# Altium integrated library TI Power Management Battery Management.IntLib: 949 symbols (part 5 of 62)
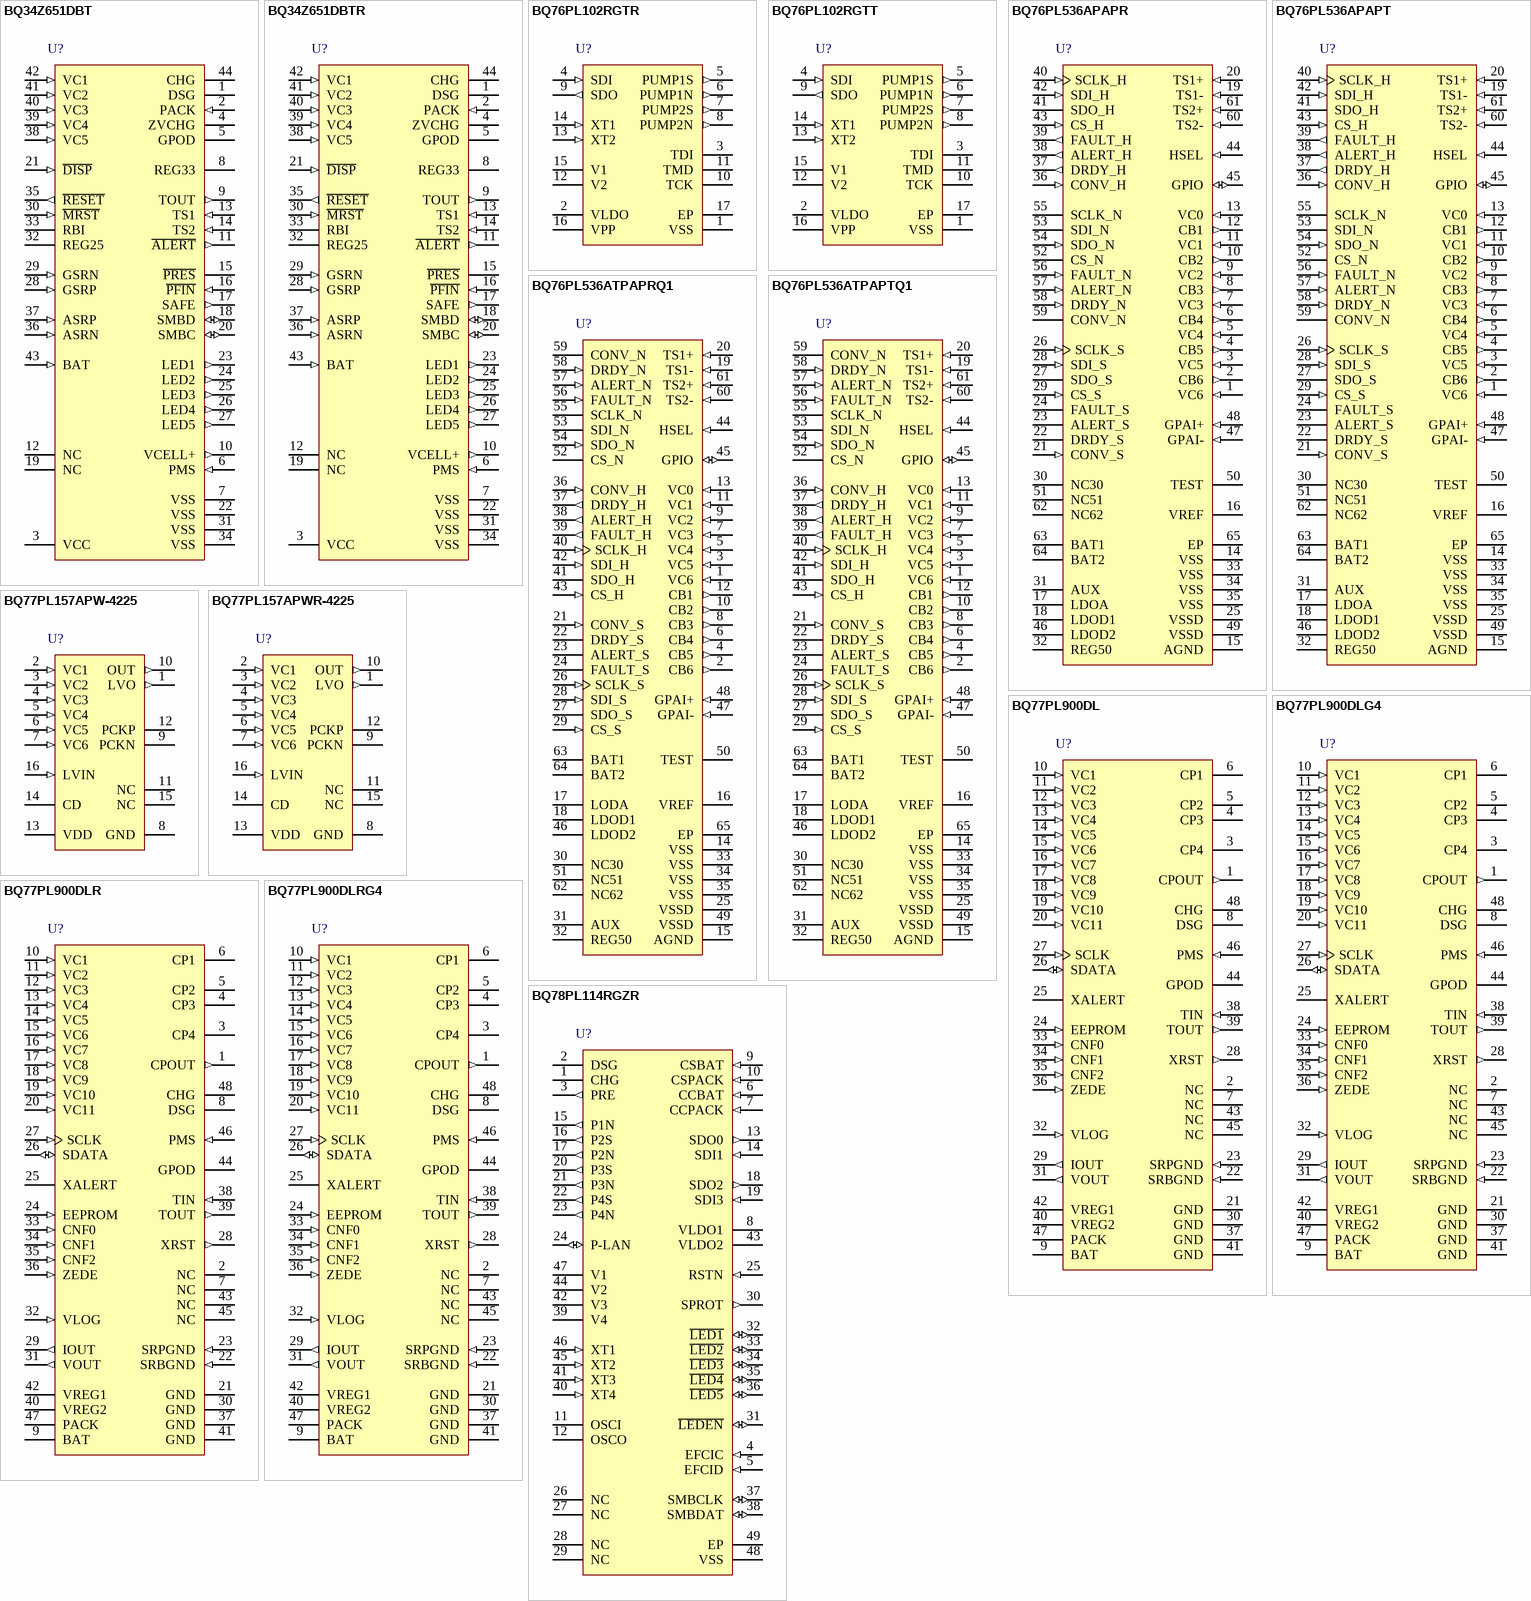
[diagram p38: symbols BQ34Z651DBT to BQ78PL114RGZR]

## BQ77PL900DLG4
designator U?
5 to 10 Cell Li-ion Battery Protection & AFE, -40 to 100 degC, 48-pin SSOP (DL), Green (RoHS & no Sb/Br); PartNumber: BQ77PL900DLG4; Manufacturer: Texas Instruments; Lead Acid: N; Li-Ion: Y; SubFamily: Lithium Ion Protection; DatasheetVersion: SLUS844B; PackageVersion: revE, Dec-2001; PackageReference: DL48; PackageDescription: 48-Pin Plastic Small Outline Package 0.635 mm Pitch; Supplier 1: Digi-Key; Supplier Part Number 1: BQ77PL900DLG4-ND; Supplier 2: Mouser; Supplier Part Number 2: 595-BQ77PL900DLG4; Eco-Plan: Green (RoHS & no Sb/Br); Li-Polymer: Y; NiCd: N; NiMH: N; Over Voltage Protection: Y; Mounting Technology: Surface Mount; Code_JEDEC: MO-118; ComponentLink1Description: Datasheet; ComponentLink1URL: http://www.ti.com/general/docs/lit/getliterature.tsp?genericPartNumber=BQ77PL900&fileType=pdf
footprint DL48_N (SOP, 48-Leads, Body 15.9x7.5mm, Pitch 0.635mm, IPC Medium Density)
footprint DL48_L (SOP, 48-Leads, Body 15.9x7.5mm, Pitch 0.635mm, IPC High Density)
footprint DL48_M (SOP, 48-Leads, Body 15.9x7.5mm, Pitch 0.635mm, IPC Low Density)
pins: 1 CPOUT (out) "Charge pump output and internal power source.", 2 NC "No connect (not electrically connected)", 3 CP4 "Charge pump capacitor 1 connection terminal", 4 CP3 "Charge pump capacitor 1 connection terminal", 5 CP2 "Charge pump capacitor 2 connection terminal", 6 CP1 "Charge pump capacitor 2 connection terminal", 7 NC "No connect (not electrically connected)", 8 DSG "Discharge FET gate drive", 9 BAT (power) "Power supply voltage", 10 VC1 (in) "Sense voltage input terminal for most positive cell, balance current input for most positive cell, and battery stack measurement input", 11 VC2 (in) "Sense voltage input terminal for second-most positive cell, balance current input for second-most positive cell, and return balance current for most positive cell", 12 VC3 (in) "Sense voltage input terminal for second-most positive cell, balance current input for third-most positive cell, and return balance current for second-most positive cell", 13 VC4 (in) "Sense voltage input terminal for fourth-most positive cell, balance current input for fourth-most positive cell, and return balance current for third-most positive cell", 14 VC5 (in) "Sense voltage input terminal for fifth-most positive cell, balance current input for fifth-most positive cell, and return balance current for fourth-most positive cell", 15 VC6 (in) "Sense voltage input terminal for sixth-most positive cell, balance current input for sixth-most positive cell, and return balance current for fifth-most positive cell", 16 VC7 (in) "Sense voltage input terminal for seventh-most positive cell, balance current input for seventh-most positive cell, and return balance current for sixth-most positive cell", 17 VC8 (in) "Sense voltage input terminal for eighth-most positive cell, balance current input for eighth-most positive cell, and return balance current for seventh-most positive cell", 18 VC9 (in) "Sense voltage input terminal for ninth-most positive cell, balance current input for ninth-most positive cell, and return balance current for eighth-most positive cell", 19 VC10 (in) "Sense voltage input terminal for tenth-most positive cell, balance current input for tenth-most positive cell, and return balance current for ninth-most positive cell", 20 VC11 (in) "Sense voltage input terminal for most negative cell, return balance current for least positive cell", 21 GND (power) "Power-supply ground", 22 SRBGND (in) "Current sense terminal (Connect Battery to cell’s GND)", 23 SRPGND (in) "Current-sense positive terminal when discharging relative to SRNGND, current-sense negative terminal when charging relative to SRGND. (Connect to pack GND)", 24 EEPROM (in) "Active-high EEPROM write-enable pin. During normal operation, should be connected to GND", 25 XALERT (oc) "Open-drain output used to indicate status register change. (Includes an internal 100-k ohm pullup to VLOG.)", 26 SDATA (io) "Open-drain bidirectional serial interface data with an internal 10-k ohm pullup to VLOG", 27 SCLK (in) "Open-drain bidirectional serial interface clock with an internal 10-k ohm pullup to VLOG", 28 XRST (out) "Power-on-reset output. Active-low open-drain output with an internal 3-k ohm pullup to VLOG", 29 IOUT (out) "Amplifier output for charge/discharge current measurement", 30 GND (power) "Power-supply ground", 31 VOUT (out) "Amplifier output for cell voltage measurement", 32 VLOG (in) "Data I/O voltage set by connecting either VREG1 or VREG2", 33 CNF0 (in) "Used cell for number determination in combination with CNF1 and CNF2", 34 CNF1 (in) "Used cell for number determination in combination with CNF0 and CNF2", 35 CNF2 (in) "Used cell for number determination in combination with CNF0 and CNF1", 36 ZEDE (in) "Protection delay test pin. Minimizes protection delay times when connected to VLOG. Programmed delay times used when pulled to GND, normal operation.", 37 GND (power) "Power-supply ground", 38 TIN (in) "Temperature sensing input", 39 TOUT (out) "Thermistor bias current source", 40 VREG2 (power) "Integrated 3.3-V regulator output", 41 GND (power) "Should be connected to GND", 42 VREG1 (power) "Integrated 5-V regulator output", 43 NC "No connect (not electrically connected)", 44 GPOD (hiz) "General-purpose N-CH FET open-drain output", 45 NC "No connect (not electrically connected)", 46 PMS (in) "Determines CHG output state for zero-volt charge", 47 PACK (power) "PACK positive terminal and alternative power source", 48 CHG "Charge FET gate drive"

## BQ77PL900DLR
designator U?
5 to 10 Cell Li-ion Battery Protection & AFE, -40 to 100 degC, 48-pin SSOP (DL), Green (RoHS & no Sb/Br); PartNumber: BQ77PL900DLR; Manufacturer: Texas Instruments; Lead Acid: N; Li-Ion: Y; SubFamily: Lithium Ion Protection; DatasheetVersion: SLUS844B; PackageVersion: revE, Dec-2001; PackageReference: DL48; PackageDescription: 48-Pin Plastic Small Outline Package 0.635 mm Pitch; Supplier 1: Digi-Key; Supplier Part Number 1: 296-23520-2-ND; Supplier 2: Digi-Key; Supplier Part Number 2: 296-23520-1-ND; Supplier 3: Digi-Key; Supplier Part Number 3: 296-23520-6-ND; Supplier 4: Newark; Supplier Part Number 4: 15N0083; Supplier 5: Mouser; Supplier Part Number 5: 595-BQ77PL900DLR; Eco-Plan: Green (RoHS & no Sb/Br); Li-Polymer: Y; NiCd: N; NiMH: N; Over Voltage Protection: Y; Mounting Technology: Surface Mount; Code_JEDEC: MO-118; ComponentLink1Description: Datasheet; ComponentLink1URL: http://www.ti.com/general/docs/lit/getliterature.tsp?genericPartNumber=BQ77PL900&fileType=pdf
footprint DL48_N (SOP, 48-Leads, Body 15.9x7.5mm, Pitch 0.635mm, IPC Medium Density)
footprint DL48_L (SOP, 48-Leads, Body 15.9x7.5mm, Pitch 0.635mm, IPC High Density)
footprint DL48_M (SOP, 48-Leads, Body 15.9x7.5mm, Pitch 0.635mm, IPC Low Density)
pins: 1 CPOUT (out) "Charge pump output and internal power source.", 2 NC "No connect (not electrically connected)", 3 CP4 "Charge pump capacitor 1 connection terminal", 4 CP3 "Charge pump capacitor 1 connection terminal", 5 CP2 "Charge pump capacitor 2 connection terminal", 6 CP1 "Charge pump capacitor 2 connection terminal", 7 NC "No connect (not electrically connected)", 8 DSG "Discharge FET gate drive", 9 BAT (power) "Power supply voltage", 10 VC1 (in) "Sense voltage input terminal for most positive cell, balance current input for most positive cell, and battery stack measurement input", 11 VC2 (in) "Sense voltage input terminal for second-most positive cell, balance current input for second-most positive cell, and return balance current for most positive cell", 12 VC3 (in) "Sense voltage input terminal for second-most positive cell, balance current input for third-most positive cell, and return balance current for second-most positive cell", 13 VC4 (in) "Sense voltage input terminal for fourth-most positive cell, balance current input for fourth-most positive cell, and return balance current for third-most positive cell", 14 VC5 (in) "Sense voltage input terminal for fifth-most positive cell, balance current input for fifth-most positive cell, and return balance current for fourth-most positive cell", 15 VC6 (in) "Sense voltage input terminal for sixth-most positive cell, balance current input for sixth-most positive cell, and return balance current for fifth-most positive cell", 16 VC7 (in) "Sense voltage input terminal for seventh-most positive cell, balance current input for seventh-most positive cell, and return balance current for sixth-most positive cell", 17 VC8 (in) "Sense voltage input terminal for eighth-most positive cell, balance current input for eighth-most positive cell, and return balance current for seventh-most positive cell", 18 VC9 (in) "Sense voltage input terminal for ninth-most positive cell, balance current input for ninth-most positive cell, and return balance current for eighth-most positive cell", 19 VC10 (in) "Sense voltage input terminal for tenth-most positive cell, balance current input for tenth-most positive cell, and return balance current for ninth-most positive cell", 20 VC11 (in) "Sense voltage input terminal for most negative cell, return balance current for least positive cell", 21 GND (power) "Power-supply ground", 22 SRBGND (in) "Current sense terminal (Connect Battery to cell’s GND)", 23 SRPGND (in) "Current-sense positive terminal when discharging relative to SRNGND, current-sense negative terminal when charging relative to SRGND. (Connect to pack GND)", 24 EEPROM (in) "Active-high EEPROM write-enable pin. During normal operation, should be connected to GND", 25 XALERT (oc) "Open-drain output used to indicate status register change. (Includes an internal 100-k ohm pullup to VLOG.)", 26 SDATA (io) "Open-drain bidirectional serial interface data with an internal 10-k ohm pullup to VLOG", 27 SCLK (in) "Open-drain bidirectional serial interface clock with an internal 10-k ohm pullup to VLOG", 28 XRST (out) "Power-on-reset output. Active-low open-drain output with an internal 3-k ohm pullup to VLOG", 29 IOUT (out) "Amplifier output for charge/discharge current measurement", 30 GND (power) "Power-supply ground", 31 VOUT (out) "Amplifier output for cell voltage measurement", 32 VLOG (in) "Data I/O voltage set by connecting either VREG1 or VREG2", 33 CNF0 (in) "Used cell for number determination in combination with CNF1 and CNF2", 34 CNF1 (in) "Used cell for number determination in combination with CNF0 and CNF2", 35 CNF2 (in) "Used cell for number determination in combination with CNF0 and CNF1", 36 ZEDE (in) "Protection delay test pin. Minimizes protection delay times when connected to VLOG. Programmed delay times used when pulled to GND, normal operation.", 37 GND (power) "Power-supply ground", 38 TIN (in) "Temperature sensing input", 39 TOUT (out) "Thermistor bias current source", 40 VREG2 (power) "Integrated 3.3-V regulator output", 41 GND (power) "Should be connected to GND", 42 VREG1 (power) "Integrated 5-V regulator output", 43 NC "No connect (not electrically connected)", 44 GPOD (hiz) "General-purpose N-CH FET open-drain output", 45 NC "No connect (not electrically connected)", 46 PMS (in) "Determines CHG output state for zero-volt charge", 47 PACK (power) "PACK positive terminal and alternative power source", 48 CHG "Charge FET gate drive"

## BQ77PL900DLRG4
designator U?
5 to 10 Cell Li-ion Battery Protection & AFE, -40 to 100 degC, 48-pin SSOP (DL), Green (RoHS & no Sb/Br); PartNumber: BQ77PL900DLRG4; Manufacturer: Texas Instruments; Lead Acid: N; Li-Ion: Y; SubFamily: Lithium Ion Protection; DatasheetVersion: SLUS844B; PackageVersion: revE, Dec-2001; PackageReference: DL48; PackageDescription: 48-Pin Plastic Small Outline Package 0.635 mm Pitch; Supplier 1: Digi-Key; Supplier Part Number 1: BQ77PL900DLRG4-ND; Supplier 2: Mouser; Supplier Part Number 2: 595-BQ77PL900DLRG4; Eco-Plan: Green (RoHS & no Sb/Br); Li-Polymer: Y; NiCd: N; NiMH: N; Over Voltage Protection: Y; Mounting Technology: Surface Mount; Code_JEDEC: MO-118; ComponentLink1Description: Datasheet; ComponentLink1URL: http://www.ti.com/general/docs/lit/getliterature.tsp?genericPartNumber=BQ77PL900&fileType=pdf
footprint DL48_N (SOP, 48-Leads, Body 15.9x7.5mm, Pitch 0.635mm, IPC Medium Density)
footprint DL48_L (SOP, 48-Leads, Body 15.9x7.5mm, Pitch 0.635mm, IPC High Density)
footprint DL48_M (SOP, 48-Leads, Body 15.9x7.5mm, Pitch 0.635mm, IPC Low Density)
pins: 1 CPOUT (out) "Charge pump output and internal power source.", 2 NC "No connect (not electrically connected)", 3 CP4 "Charge pump capacitor 1 connection terminal", 4 CP3 "Charge pump capacitor 1 connection terminal", 5 CP2 "Charge pump capacitor 2 connection terminal", 6 CP1 "Charge pump capacitor 2 connection terminal", 7 NC "No connect (not electrically connected)", 8 DSG "Discharge FET gate drive", 9 BAT (power) "Power supply voltage", 10 VC1 (in) "Sense voltage input terminal for most positive cell, balance current input for most positive cell, and battery stack measurement input", 11 VC2 (in) "Sense voltage input terminal for second-most positive cell, balance current input for second-most positive cell, and return balance current for most positive cell", 12 VC3 (in) "Sense voltage input terminal for second-most positive cell, balance current input for third-most positive cell, and return balance current for second-most positive cell", 13 VC4 (in) "Sense voltage input terminal for fourth-most positive cell, balance current input for fourth-most positive cell, and return balance current for third-most positive cell", 14 VC5 (in) "Sense voltage input terminal for fifth-most positive cell, balance current input for fifth-most positive cell, and return balance current for fourth-most positive cell", 15 VC6 (in) "Sense voltage input terminal for sixth-most positive cell, balance current input for sixth-most positive cell, and return balance current for fifth-most positive cell", 16 VC7 (in) "Sense voltage input terminal for seventh-most positive cell, balance current input for seventh-most positive cell, and return balance current for sixth-most positive cell", 17 VC8 (in) "Sense voltage input terminal for eighth-most positive cell, balance current input for eighth-most positive cell, and return balance current for seventh-most positive cell", 18 VC9 (in) "Sense voltage input terminal for ninth-most positive cell, balance current input for ninth-most positive cell, and return balance current for eighth-most positive cell", 19 VC10 (in) "Sense voltage input terminal for tenth-most positive cell, balance current input for tenth-most positive cell, and return balance current for ninth-most positive cell", 20 VC11 (in) "Sense voltage input terminal for most negative cell, return balance current for least positive cell", 21 GND (power) "Power-supply ground", 22 SRBGND (in) "Current sense terminal (Connect Battery to cell’s GND)", 23 SRPGND (in) "Current-sense positive terminal when discharging relative to SRNGND, current-sense negative terminal when charging relative to SRGND. (Connect to pack GND)", 24 EEPROM (in) "Active-high EEPROM write-enable pin. During normal operation, should be connected to GND", 25 XALERT (oc) "Open-drain output used to indicate status register change. (Includes an internal 100-k ohm pullup to VLOG.)", 26 SDATA (io) "Open-drain bidirectional serial interface data with an internal 10-k ohm pullup to VLOG", 27 SCLK (in) "Open-drain bidirectional serial interface clock with an internal 10-k ohm pullup to VLOG", 28 XRST (out) "Power-on-reset output. Active-low open-drain output with an internal 3-k ohm pullup to VLOG", 29 IOUT (out) "Amplifier output for charge/discharge current measurement", 30 GND (power) "Power-supply ground", 31 VOUT (out) "Amplifier output for cell voltage measurement", 32 VLOG (in) "Data I/O voltage set by connecting either VREG1 or VREG2", 33 CNF0 (in) "Used cell for number determination in combination with CNF1 and CNF2", 34 CNF1 (in) "Used cell for number determination in combination with CNF0 and CNF2", 35 CNF2 (in) "Used cell for number determination in combination with CNF0 and CNF1", 36 ZEDE (in) "Protection delay test pin. Minimizes protection delay times when connected to VLOG. Programmed delay times used when pulled to GND, normal operation.", 37 GND (power) "Power-supply ground", 38 TIN (in) "Temperature sensing input", 39 TOUT (out) "Thermistor bias current source", 40 VREG2 (power) "Integrated 3.3-V regulator output", 41 GND (power) "Should be connected to GND", 42 VREG1 (power) "Integrated 5-V regulator output", 43 NC "No connect (not electrically connected)", 44 GPOD (hiz) "General-purpose N-CH FET open-drain output", 45 NC "No connect (not electrically connected)", 46 PMS (in) "Determines CHG output state for zero-volt charge", 47 PACK (power) "PACK positive terminal and alternative power source", 48 CHG "Charge FET gate drive"

## BQ78PL114RGZR
designator U?
PowerLAN Gateway Battery Management Controller with PowerPump Cell Balancing, -40 to 85 degC, 48-pin VQFN (RGZ), Green (RoHS & no Sb/Br); PartNumber: BQ78PL114RGZR; Manufacturer: Texas Instruments; SubFamily: Battery Fuel Gauge; DatasheetVersion: SLUS850B; PackageVersion: revF, Jun-2011; PackageReference: RGZ48-5300X5300TP; PackageDescription: 48-Pin Plastic Quad Flatpack No-Lead, 7 x 7 mm Body, 0.5 mm Pitch, Exposed Pad; Supplier 1: Digi-Key; Supplier Part Number 1: 296-23814-2-ND; Supplier 2: Digi-Key; Supplier Part Number 2: 296-23814-1-ND; Supplier 3: Digi-Key; Supplier Part Number 3: 296-23814-6-ND; Supplier 4: Newark; Supplier Part Number 4: 12P8640; Supplier 5: Mouser; Supplier Part Number 5: 595-BQ78PL114RGZR; Eco-Plan: Green (RoHS & no Sb/Br); Mounting Technology: Surface Mount; Code_JEDEC: MO-220; ComponentLink1Description: Datasheet; ComponentLink1URL: http://www.ti.com/general/docs/lit/getliterature.tsp?genericPartNumber=BQ78PL114&fileType=pdf
footprint RGZ48-5300X5300TP (QFN, 48-Leads, Body 7x7mm, Pitch 0.5mm, Thermal Pad 5.3x5.3mm)
pins: 1 CHG "Charge MOSFET control (active-high, low opens MOSFET)", 2 DSG "Discharge MOSFET control (active-high, low opens MOSFET)", 3 PRE (out) "Precharge MOSFET control (active-high)", 4 EFCIC (in) "External charge MOSFET control input", 5 EFCID (in) "External discharge MOSFET control input", 6 CCBAT (in) "Coulomb counter input (sense resistor), connect to battery negative", 7 CCPACK (in) "Coulomb counter input (sense resistor), connect to pack negative", 8 VLDO1 (power) "Internal LDO-1 output, bypass with 10-uF capacitor to VSS", 9 CSBAT (in) "Current sense input (safety), connect to battery negative", 10 CSPACK (in) "Current sense input (safety), connect to pack negative", 11 OSCI "External oscillator input (no connect, internal oscillator used)", 12 OSCO "External oscillator output (no connect, internal oscillator used)", 13 SDO0 (out) "Requires 100-kO pullup resistor to VLDO1", 14 SDI1 (in) "Connect to SDO0 via a capacitor", 15 P1N (out) "Charge-balance gate drive, cell 1 north", 16 P2S (out) "Charge-balance gate drive, cell 2 south", 17 P2N (out) "Charge-balance gate drive, cell 2 north", 18 SDO2 (out) "Internal PowerLAN connection - connect to SDI3 through a 0.01-uF capacitor", 19 SDI3 (in) "Internal PowerLAN connection - connect to SDO2 through a 0.01-uF capacitor", 20 P3S (out) "Charge-balance gate drive, cell 3 south", 21 P3N (out) "Charge-balance gate drive, cell 3 north", 22 P4S (out) "Charge-balance gate drive, cell 4 south", 23 P4N (out) "Charge-balance gate drive, cell 4 north", 24 P-LAN (io) "PowerLAN I/O to external bq76PL102 nodes", 25 RSTN (in) "Device reset, active-low", 26 NC "Connect 1-MO resistor to VSS", 27 NC "Connect 1-MO resistor to VSS", 28 NC "No connect", 29 NC "No connect", 30 SPROT (out) "Secondary protection output, active-high (FUSE)", 31 ~{LEDEN} (io) "LEDEN - common-anode drive (active-low) and pushbutton input", 32 ~{LED1} (io) "LED1 - open-drain, active-low", 33 ~{LED2} (io) "LED2 - open-drain, active-low", 34 ~{LED3} (io) "LED3 - open-drain, active-low", 35 ~{LED4} (io) "LED4 - open-drain, active-low", 36 ~{LED5} (io) "LED5 - open-drain, active-low", 37 SMBCLK (io) "SMBus clock signal", 38 SMBDAT (io) "SMBus data signal", 39 V4 (power) "Cell-4 positive input", 40 XT4 (in) "External temperature-sensor-4 input", 41 XT3 (in) "External temperature-sensor-3 input", 42 V3 (power) "Cell-3 positive input", 43 VLDO2 (power) "Internal LDO-2 output, bypass with 10-uF capacitor to V2", 44 V2 (power) "Cell-2 positive input", 45 XT2 (in) "External temperature-sensor-2 input", 46 XT1 (in) "External temperature-sensor-1 input", 47 V1 (power) "Cell-1 positive input", 48 VSS (power) "Cell-1 negative input", 49 EP (power) "Thermal pad. Connect to VSS"

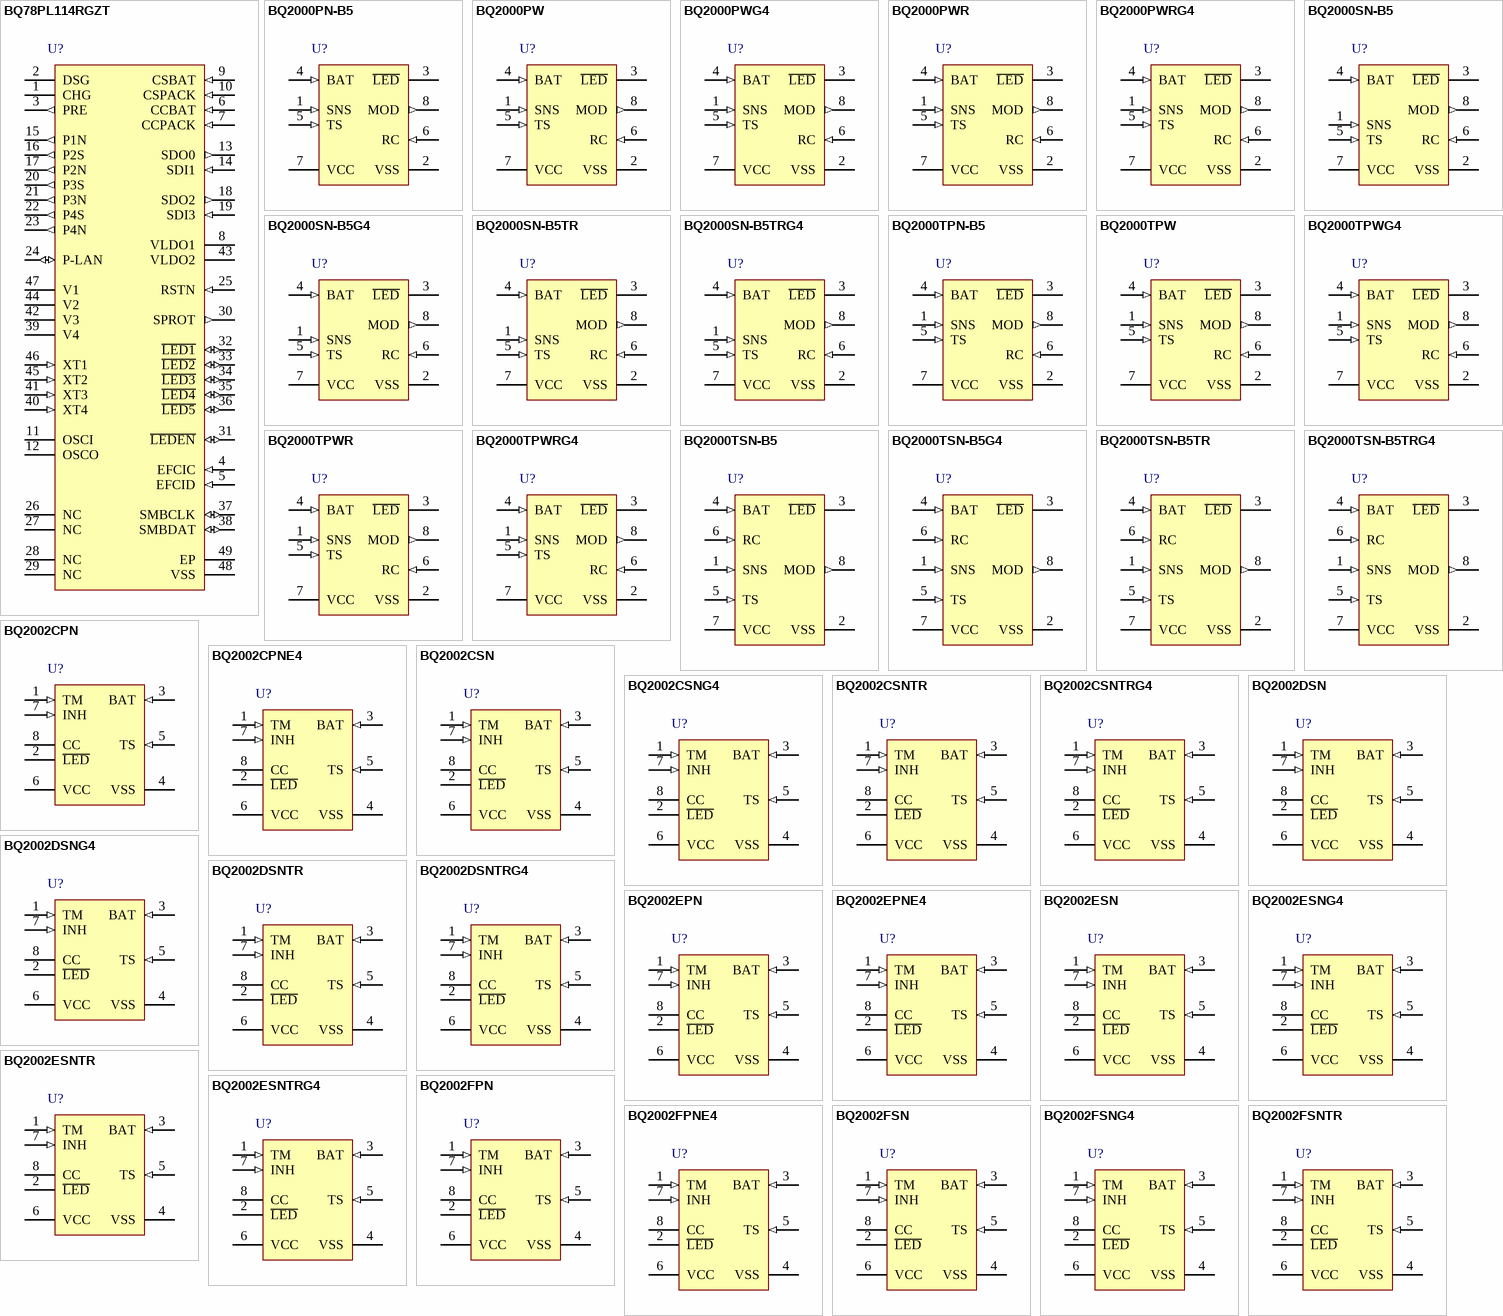
[diagram p3: symbols BQ78PL114RGZT to BQ2002FSNTR]

## BQ78PL114RGZT
designator U?
PowerLAN Gateway Battery Management Controller with PowerPump Cell Balancing, -40 to 85 degC, 48-pin VQFN (RGZ), Green (RoHS & no Sb/Br); PartNumber: BQ78PL114RGZT; Manufacturer: Texas Instruments; SubFamily: Battery Fuel Gauge; DatasheetVersion: SLUS850B; PackageVersion: revF, Jun-2011; PackageReference: RGZ48-5300X5300TP; PackageDescription: 48-Pin Plastic Quad Flatpack No-Lead, 7 x 7 mm Body, 0.5 mm Pitch, Exposed Pad; Supplier 1: Digi-Key; Supplier Part Number 1: 296-31474-2-ND; Supplier 2: Digi-Key; Supplier Part Number 2: 296-31474-1-ND; Supplier 3: Digi-Key; Supplier Part Number 3: 296-31474-6-ND; Supplier 4: Farnell; Supplier Part Number 4: 1684746; Supplier 5: Farnell; Supplier Part Number 5: 1684746RL; Supplier 6: Newark; Supplier Part Number 6: 12P6259; Supplier 7: Mouser; Supplier Part Number 7: 595-BQ78PL114RGZT; Eco-Plan: Green (RoHS & no Sb/Br); Mounting Technology: Surface Mount; Code_JEDEC: MO-220; ComponentLink1Description: Datasheet; ComponentLink1URL: http://www.ti.com/general/docs/lit/getliterature.tsp?genericPartNumber=BQ78PL114&fileType=pdf
footprint RGZ48-5300X5300TP (QFN, 48-Leads, Body 7x7mm, Pitch 0.5mm, Thermal Pad 5.3x5.3mm)
pins: 1 CHG "Charge MOSFET control (active-high, low opens MOSFET)", 2 DSG "Discharge MOSFET control (active-high, low opens MOSFET)", 3 PRE (out) "Precharge MOSFET control (active-high)", 4 EFCIC (in) "External charge MOSFET control input", 5 EFCID (in) "External discharge MOSFET control input", 6 CCBAT (in) "Coulomb counter input (sense resistor), connect to battery negative", 7 CCPACK (in) "Coulomb counter input (sense resistor), connect to pack negative", 8 VLDO1 (power) "Internal LDO-1 output, bypass with 10-uF capacitor to VSS", 9 CSBAT (in) "Current sense input (safety), connect to battery negative", 10 CSPACK (in) "Current sense input (safety), connect to pack negative", 11 OSCI "External oscillator input (no connect, internal oscillator used)", 12 OSCO "External oscillator output (no connect, internal oscillator used)", 13 SDO0 (out) "Requires 100-kO pullup resistor to VLDO1", 14 SDI1 (in) "Connect to SDO0 via a capacitor", 15 P1N (out) "Charge-balance gate drive, cell 1 north", 16 P2S (out) "Charge-balance gate drive, cell 2 south", 17 P2N (out) "Charge-balance gate drive, cell 2 north", 18 SDO2 (out) "Internal PowerLAN connection - connect to SDI3 through a 0.01-uF capacitor", 19 SDI3 (in) "Internal PowerLAN connection - connect to SDO2 through a 0.01-uF capacitor", 20 P3S (out) "Charge-balance gate drive, cell 3 south", 21 P3N (out) "Charge-balance gate drive, cell 3 north", 22 P4S (out) "Charge-balance gate drive, cell 4 south", 23 P4N (out) "Charge-balance gate drive, cell 4 north", 24 P-LAN (io) "PowerLAN I/O to external bq76PL102 nodes", 25 RSTN (in) "Device reset, active-low", 26 NC "Connect 1-MO resistor to VSS", 27 NC "Connect 1-MO resistor to VSS", 28 NC "No connect", 29 NC "No connect", 30 SPROT (out) "Secondary protection output, active-high (FUSE)", 31 ~{LEDEN} (io) "LEDEN - common-anode drive (active-low) and pushbutton input", 32 ~{LED1} (io) "LED1 - open-drain, active-low", 33 ~{LED2} (io) "LED2 - open-drain, active-low", 34 ~{LED3} (io) "LED3 - open-drain, active-low", 35 ~{LED4} (io) "LED4 - open-drain, active-low", 36 ~{LED5} (io) "LED5 - open-drain, active-low", 37 SMBCLK (io) "SMBus clock signal", 38 SMBDAT (io) "SMBus data signal", 39 V4 (power) "Cell-4 positive input", 40 XT4 (in) "External temperature-sensor-4 input", 41 XT3 (in) "External temperature-sensor-3 input", 42 V3 (power) "Cell-3 positive input", 43 VLDO2 (power) "Internal LDO-2 output, bypass with 10-uF capacitor to V2", 44 V2 (power) "Cell-2 positive input", 45 XT2 (in) "External temperature-sensor-2 input", 46 XT1 (in) "External temperature-sensor-1 input", 47 V1 (power) "Cell-1 positive input", 48 VSS (power) "Cell-1 negative input", 49 EP (power) "Thermal pad. Connect to VSS"

## BQ2000PN-B5
designator U?
Switch-Mode Multi-Chemistry Battery Charger with Peak Voltage Detection Termination, 4 V, -20 to 70 degC, 8-pin PDIP (P), Pb-Free (RoHS); PartNumber: BQ2000PN-B5; Manufacturer: Texas Instruments; Lead Acid: N; Li-Ion: Y; SubFamily: Battery Charge Management; Vin(Min)(V): 4; DatasheetVersion: SLUS138D; PackageVersion: revE, Apr-2010; PackageReference: P8; PackageDescription: 8-Pin Plastic Dual-In-Line Package, Row Spacing 7.62 mm, Pitch 2.54 mm; Supplier 1: Digi-Key; Supplier Part Number 1: 296-9313-5-ND; Supplier 2: Newark; Supplier Part Number 2: 74C7500; Supplier 3: Mouser; Supplier Part Number 3: 595-BQ2000PN-B5; Eco-Plan: Pb-Free (RoHS); Li-Polymer: Y; NiCd: Y; NiMH: Y; Over Voltage Protection: N; Mounting Technology: Through Hole; Code_JEDEC: MS-001-BA; ComponentLink1Description: Datasheet; ComponentLink1URL: http://www.ti.com/general/docs/lit/getliterature.tsp?genericPartNumber=BQ2000&fileType=pdf
footprint P8 (DIP, 8-Leads, Row Spacing 7.62mm, Pitch 2.54mm, Body 9.6x6.4mm)
pins: 1 SNS (in) "Current-sense input. Enables the bq2000 to sense the battery current via the voltage developed on this pin by an external sense-resistor connected in series with the battery pack", 2 VSS (power) "System ground. Connect to the battery’s negative terminal", 3 ~{LED} (hiz) "Charge-status output. Open-drain output that indicates the charging status by turning on, turning off, or flashing an external LED, driven through a resistor.", 4 BAT (in) "Battery-voltage input. Battery-voltage sense input. A simple resistive divider, across the battery terminals, generates this input.", 5 TS (in) "Temperature-sense input. Input for an external battery-temperature monitoring circuit. An external resistive divider network with a negative temperature-coefficient thermistor sets the lower and upper temperature thresholds.", 6 RC (in) "Timer-program input. Used to program the maximum fast charge-time, maximum top-off charge-time, hold-off period, trickle charge rate, and to disable or enable top-off charge. A capacitor from VCC and a resistor to ground (See Datasheet)", 7 VCC (power) "Supply-voltage input. Recommended bypassing is 10 uF + 0.1 uF to 0.22 uF of decoupling capacitance near the pin.", 8 MOD (out) "Modulation-control output. Push-pull output that controls the charging current to the battery. MOD switches high to enable charging current to flow and low to inhibit charging-current flow."

## BQ2000PW
designator U?
Switch-Mode Multi-Chemistry Battery Charger with Peak Voltage Detection Termination, 4 V, -20 to 70 degC, 8-pin TSSOP (PW), Green (RoHS & no Sb/Br); PartNumber: BQ2000PW; Manufacturer: Texas Instruments; Lead Acid: N; Li-Ion: Y; SubFamily: Battery Charge Management; Vin(Min)(V): 4; DatasheetVersion: SLUS138D; PackageVersion: revG, Feb-2011; PackageReference: PW8; PackageDescription: 8-Pin Plastic Thin Small Outline Package 3 x 4.4 mm Body ,0.65 mm Pitch; Supplier 1: Digi-Key; Supplier Part Number 1: 296-12359-5-ND; Supplier 2: Farnell; Supplier Part Number 2: 1534652; Supplier 3: Newark; Supplier Part Number 3: 74C7501; Supplier 4: Mouser; Supplier Part Number 4: 595-BQ2000PW; Eco-Plan: Green (RoHS & no Sb/Br); Li-Polymer: Y; NiCd: Y; NiMH: Y; Over Voltage Protection: N; Mounting Technology: Surface Mount; Code_JEDEC: MO-153; ComponentLink1Description: Datasheet; ComponentLink1URL: http://www.ti.com/general/docs/lit/getliterature.tsp?genericPartNumber=BQ2000&fileType=pdf
footprint PW8_N (TSOP, 8-Leads, Body 3x4.4mm, Pitch 0.65mm, IPC Medium Density)
footprint PW8_L (TSOP, 8-Leads, Body 3x4.4mm, Pitch 0.65mm, IPC High Density)
footprint PW8_M (TSOP, 8-Leads, Body 3x4.4mm, Pitch 0.65mm, IPC Low Density)
pins: 1 SNS (in) "Current-sense input. Enables the bq2000 to sense the battery current via the voltage developed on this pin by an external sense-resistor connected in series with the battery pack", 2 VSS (power) "System ground. Connect to the battery’s negative terminal", 3 ~{LED} (hiz) "Charge-status output. Open-drain output that indicates the charging status by turning on, turning off, or flashing an external LED, driven through a resistor.", 4 BAT (in) "Battery-voltage input. Battery-voltage sense input. A simple resistive divider, across the battery terminals, generates this input.", 5 TS (in) "Temperature-sense input. Input for an external battery-temperature monitoring circuit. An external resistive divider network with a negative temperature-coefficient thermistor sets the lower and upper temperature thresholds.", 6 RC (in) "Timer-program input. Used to program the maximum fast charge-time, maximum top-off charge-time, hold-off period, trickle charge rate, and to disable or enable top-off charge. A capacitor from VCC and a resistor to ground (See Datasheet)", 7 VCC (power) "Supply-voltage input. Recommended bypassing is 10 uF + 0.1 uF to 0.22 uF of decoupling capacitance near the pin.", 8 MOD (out) "Modulation-control output. Push-pull output that controls the charging current to the battery. MOD switches high to enable charging current to flow and low to inhibit charging-current flow."

## BQ2000PWG4
designator U?
Switch-Mode Multi-Chemistry Battery Charger with Peak Voltage Detection Termination, 4 V, -20 to 70 degC, 8-pin TSSOP (PW), Green (RoHS & no Sb/Br); PartNumber: BQ2000PWG4; Manufacturer: Texas Instruments; Lead Acid: N; Li-Ion: Y; SubFamily: Battery Charge Management; Vin(Min)(V): 4; DatasheetVersion: SLUS138D; PackageVersion: revG, Feb-2011; PackageReference: PW8; PackageDescription: 8-Pin Plastic Thin Small Outline Package 3 x 4.4 mm Body ,0.65 mm Pitch; Supplier 1: Digi-Key; Supplier Part Number 1: BQ2000PWG4-ND; Supplier 2: Newark; Supplier Part Number 2: 58K5568; Supplier 3: Mouser; Supplier Part Number 3: 595-BQ2000PWG4; Eco-Plan: Green (RoHS & no Sb/Br); Li-Polymer: Y; NiCd: Y; NiMH: Y; Over Voltage Protection: N; Mounting Technology: Surface Mount; Code_JEDEC: MO-153; ComponentLink1Description: Datasheet; ComponentLink1URL: http://www.ti.com/general/docs/lit/getliterature.tsp?genericPartNumber=BQ2000&fileType=pdf
footprint PW8_N (TSOP, 8-Leads, Body 3x4.4mm, Pitch 0.65mm, IPC Medium Density)
footprint PW8_L (TSOP, 8-Leads, Body 3x4.4mm, Pitch 0.65mm, IPC High Density)
footprint PW8_M (TSOP, 8-Leads, Body 3x4.4mm, Pitch 0.65mm, IPC Low Density)
pins: 1 SNS (in) "Current-sense input. Enables the bq2000 to sense the battery current via the voltage developed on this pin by an external sense-resistor connected in series with the battery pack", 2 VSS (power) "System ground. Connect to the battery’s negative terminal", 3 ~{LED} (hiz) "Charge-status output. Open-drain output that indicates the charging status by turning on, turning off, or flashing an external LED, driven through a resistor.", 4 BAT (in) "Battery-voltage input. Battery-voltage sense input. A simple resistive divider, across the battery terminals, generates this input.", 5 TS (in) "Temperature-sense input. Input for an external battery-temperature monitoring circuit. An external resistive divider network with a negative temperature-coefficient thermistor sets the lower and upper temperature thresholds.", 6 RC (in) "Timer-program input. Used to program the maximum fast charge-time, maximum top-off charge-time, hold-off period, trickle charge rate, and to disable or enable top-off charge. A capacitor from VCC and a resistor to ground (See Datasheet)", 7 VCC (power) "Supply-voltage input. Recommended bypassing is 10 uF + 0.1 uF to 0.22 uF of decoupling capacitance near the pin.", 8 MOD (out) "Modulation-control output. Push-pull output that controls the charging current to the battery. MOD switches high to enable charging current to flow and low to inhibit charging-current flow."

## BQ2000PWR
designator U?
Switch-Mode Multi-Chemistry Battery Charger with Peak Voltage Detection Termination, 4 V, -20 to 70 degC, 8-pin TSSOP (PW), Green (RoHS & no Sb/Br); PartNumber: BQ2000PWR; Manufacturer: Texas Instruments; Lead Acid: N; Li-Ion: Y; SubFamily: Battery Charge Management; Vin(Min)(V): 4; DatasheetVersion: SLUS138D; PackageVersion: revG, Feb-2011; PackageReference: PW8; PackageDescription: 8-Pin Plastic Thin Small Outline Package 3 x 4.4 mm Body ,0.65 mm Pitch; Supplier 1: Digi-Key; Supplier Part Number 1: BQ2000PWR-ND; Supplier 2: Newark; Supplier Part Number 2: 74C7502; Supplier 3: Mouser; Supplier Part Number 3: 595-BQ2000PWR; Eco-Plan: Green (RoHS & no Sb/Br); Li-Polymer: Y; NiCd: Y; NiMH: Y; Over Voltage Protection: N; Mounting Technology: Surface Mount; Code_JEDEC: MO-153; ComponentLink1Description: Datasheet; ComponentLink1URL: http://www.ti.com/general/docs/lit/getliterature.tsp?genericPartNumber=BQ2000&fileType=pdf
footprint PW8_N (TSOP, 8-Leads, Body 3x4.4mm, Pitch 0.65mm, IPC Medium Density)
footprint PW8_L (TSOP, 8-Leads, Body 3x4.4mm, Pitch 0.65mm, IPC High Density)
footprint PW8_M (TSOP, 8-Leads, Body 3x4.4mm, Pitch 0.65mm, IPC Low Density)
pins: 1 SNS (in) "Current-sense input. Enables the bq2000 to sense the battery current via the voltage developed on this pin by an external sense-resistor connected in series with the battery pack", 2 VSS (power) "System ground. Connect to the battery’s negative terminal", 3 ~{LED} (hiz) "Charge-status output. Open-drain output that indicates the charging status by turning on, turning off, or flashing an external LED, driven through a resistor.", 4 BAT (in) "Battery-voltage input. Battery-voltage sense input. A simple resistive divider, across the battery terminals, generates this input.", 5 TS (in) "Temperature-sense input. Input for an external battery-temperature monitoring circuit. An external resistive divider network with a negative temperature-coefficient thermistor sets the lower and upper temperature thresholds.", 6 RC (in) "Timer-program input. Used to program the maximum fast charge-time, maximum top-off charge-time, hold-off period, trickle charge rate, and to disable or enable top-off charge. A capacitor from VCC and a resistor to ground (See Datasheet)", 7 VCC (power) "Supply-voltage input. Recommended bypassing is 10 uF + 0.1 uF to 0.22 uF of decoupling capacitance near the pin.", 8 MOD (out) "Modulation-control output. Push-pull output that controls the charging current to the battery. MOD switches high to enable charging current to flow and low to inhibit charging-current flow."

## BQ2000PWRG4
designator U?
Switch-Mode Multi-Chemistry Battery Charger with Peak Voltage Detection Termination, 4 V, -20 to 70 degC, 8-pin TSSOP (PW), Green (RoHS & no Sb/Br); PartNumber: BQ2000PWRG4; Manufacturer: Texas Instruments; Lead Acid: N; Li-Ion: Y; SubFamily: Battery Charge Management; Vin(Min)(V): 4; DatasheetVersion: SLUS138D; PackageVersion: revG, Feb-2011; PackageReference: PW8; PackageDescription: 8-Pin Plastic Thin Small Outline Package 3 x 4.4 mm Body ,0.65 mm Pitch; Supplier 1: Digi-Key; Supplier Part Number 1: BQ2000PWRG4-ND; Supplier 2: Newark; Supplier Part Number 2: 99K1802; Supplier 3: Mouser; Supplier Part Number 3: 595-BQ2000PWRG4; Eco-Plan: Green (RoHS & no Sb/Br); Li-Polymer: Y; NiCd: Y; NiMH: Y; Over Voltage Protection: N; Mounting Technology: Surface Mount; Code_JEDEC: MO-153; ComponentLink1Description: Datasheet; ComponentLink1URL: http://www.ti.com/general/docs/lit/getliterature.tsp?genericPartNumber=BQ2000&fileType=pdf
footprint PW8_N (TSOP, 8-Leads, Body 3x4.4mm, Pitch 0.65mm, IPC Medium Density)
footprint PW8_L (TSOP, 8-Leads, Body 3x4.4mm, Pitch 0.65mm, IPC High Density)
footprint PW8_M (TSOP, 8-Leads, Body 3x4.4mm, Pitch 0.65mm, IPC Low Density)
pins: 1 SNS (in) "Current-sense input. Enables the bq2000 to sense the battery current via the voltage developed on this pin by an external sense-resistor connected in series with the battery pack", 2 VSS (power) "System ground. Connect to the battery’s negative terminal", 3 ~{LED} (hiz) "Charge-status output. Open-drain output that indicates the charging status by turning on, turning off, or flashing an external LED, driven through a resistor.", 4 BAT (in) "Battery-voltage input. Battery-voltage sense input. A simple resistive divider, across the battery terminals, generates this input.", 5 TS (in) "Temperature-sense input. Input for an external battery-temperature monitoring circuit. An external resistive divider network with a negative temperature-coefficient thermistor sets the lower and upper temperature thresholds.", 6 RC (in) "Timer-program input. Used to program the maximum fast charge-time, maximum top-off charge-time, hold-off period, trickle charge rate, and to disable or enable top-off charge. A capacitor from VCC and a resistor to ground (See Datasheet)", 7 VCC (power) "Supply-voltage input. Recommended bypassing is 10 uF + 0.1 uF to 0.22 uF of decoupling capacitance near the pin.", 8 MOD (out) "Modulation-control output. Push-pull output that controls the charging current to the battery. MOD switches high to enable charging current to flow and low to inhibit charging-current flow."

## BQ2000SN-B5
designator U?
Switch-Mode Multi-Chemistry Battery Charger with Peak Voltage Detection Termination, 4 V, -20 to 70 degC, 8-pin SOIC (D), Green (RoHS & no Sb/Br); PartNumber: BQ2000SN-B5; Manufacturer: Texas Instruments; Lead Acid: N; Li-Ion: Y; SubFamily: Battery Charge Management; Vin(Min)(V): 4; DatasheetVersion: SLUS138D; PackageVersion: revM, Jun-2011; PackageReference: D8; PackageDescription: 8-Pin Plastic Small Outline Integrated Circuit, 4.9 x 3.9 mm, Pitch 1.27 mm Pitch; Supplier 1: Digi-Key; Supplier Part Number 1: 296-9314-5-ND; Supplier 2: Farnell; Supplier Part Number 2: 1101394; Supplier 3: Newark; Supplier Part Number 3: 06M5840; Supplier 4: Newark; Supplier Part Number 4: 05M3952; Supplier 5: Mouser; Supplier Part Number 5: 595-BQ2000SN-B5; Eco-Plan: Green (RoHS & no Sb/Br); Li-Polymer: Y; NiCd: Y; NiMH: Y; Over Voltage Protection: N; Mounting Technology: Surface Mount; Code_JEDEC: MS-012AA; ComponentLink1Description: Datasheet; ComponentLink1URL: http://www.ti.com/general/docs/lit/getliterature.tsp?genericPartNumber=BQ2000&fileType=pdf
footprint D8_N (SOIC, 8-Leads, Body 4.9x3.9mm, Pitch 1.27mm, IPC Medium Density)
footprint D8_L (SOIC, 8-Leads, Body 4.9x3.9mm, Pitch 1.27mm, IPC High Density)
footprint D8_M (SOIC, 8-Leads, Body 4.9x3.9mm, Pitch 1.27mm, IPC Low Density)
pins: 1 SNS (in) "Current-sense input. Enables the bq2000 to sense the battery current via the voltage developed on this pin by an external sense-resistor connected in series with the battery pack", 2 VSS (power) "System ground. Connect to the battery's negative terminal", 3 ~{LED} (hiz) "Charge-status output. Open-drain output that indicates the charging status by turning on, turning off, or flashing an external LED, driven through a resistor.", 4 BAT (in) "Battery-voltage input. Battery-voltage sense input. A simple resistive divider, across the battery terminals, generates this input.", 5 TS (in) "Temperature-sense input. Input for an external battery-temperature monitoring circuit. An external resistive divider network with a negative temperature-coefficient thermistor sets the lower and upper temperature thresholds.", 6 RC (in) "Timer-program input. Used to program the maximum fast charge-time, maximum top-off charge-time, hold-off period, trickle charge rate, and to disable or enable top-off charge. A capacitor from VCC and a resistor to ground (See Datasheet)", 7 VCC (power) "Supply-voltage input. Recommended bypassing is 10 uF + 0.1 uF to 0.22 uF of decoupling capacitance near the pin.", 8 MOD (out) "Modulation-control output. Push-pull output that controls the charging current to the battery. MOD switches high to enable charging current to flow and low to inhibit charging-current flow."

## BQ2000SN-B5G4
designator U?
Switch-Mode Multi-Chemistry Battery Charger with Peak Voltage Detection Termination, 4 V, -20 to 70 degC, 8-pin SOIC (D), Green (RoHS & no Sb/Br); PartNumber: BQ2000SN-B5G4; Manufacturer: Texas Instruments; Lead Acid: N; Li-Ion: Y; SubFamily: Battery Charge Management; Vin(Min)(V): 4; DatasheetVersion: SLUS138D; PackageVersion: revM, Jun-2011; PackageReference: D8; PackageDescription: 8-Pin Plastic Small Outline Integrated Circuit, 4.9 x 3.9 mm, Pitch 1.27 mm Pitch; Supplier 1: Digi-Key; Supplier Part Number 1: BQ2000SN-B5G4-ND; Supplier 2: Newark; Supplier Part Number 2: 13M6212; Supplier 3: Mouser; Supplier Part Number 3: 595-BQ2000SN-B5G4; Eco-Plan: Green (RoHS & no Sb/Br); Li-Polymer: Y; NiCd: Y; NiMH: Y; Over Voltage Protection: N; Mounting Technology: Surface Mount; Code_JEDEC: MS-012AA; ComponentLink1Description: Datasheet; ComponentLink1URL: http://www.ti.com/general/docs/lit/getliterature.tsp?genericPartNumber=BQ2000&fileType=pdf
footprint D8_N (SOIC, 8-Leads, Body 4.9x3.9mm, Pitch 1.27mm, IPC Medium Density)
footprint D8_L (SOIC, 8-Leads, Body 4.9x3.9mm, Pitch 1.27mm, IPC High Density)
footprint D8_M (SOIC, 8-Leads, Body 4.9x3.9mm, Pitch 1.27mm, IPC Low Density)
pins: 1 SNS (in) "Current-sense input. Enables the bq2000 to sense the battery current via the voltage developed on this pin by an external sense-resistor connected in series with the battery pack", 2 VSS (power) "System ground. Connect to the battery's negative terminal", 3 ~{LED} (hiz) "Charge-status output. Open-drain output that indicates the charging status by turning on, turning off, or flashing an external LED, driven through a resistor.", 4 BAT (in) "Battery-voltage input. Battery-voltage sense input. A simple resistive divider, across the battery terminals, generates this input.", 5 TS (in) "Temperature-sense input. Input for an external battery-temperature monitoring circuit. An external resistive divider network with a negative temperature-coefficient thermistor sets the lower and upper temperature thresholds.", 6 RC (in) "Timer-program input. Used to program the maximum fast charge-time, maximum top-off charge-time, hold-off period, trickle charge rate, and to disable or enable top-off charge. A capacitor from VCC and a resistor to ground (See Datasheet)", 7 VCC (power) "Supply-voltage input. Recommended bypassing is 10 uF + 0.1 uF to 0.22 uF of decoupling capacitance near the pin.", 8 MOD (out) "Modulation-control output. Push-pull output that controls the charging current to the battery. MOD switches high to enable charging current to flow and low to inhibit charging-current flow."

## BQ2000SN-B5TR
designator U?
Switch-Mode Multi-Chemistry Battery Charger with Peak Voltage Detection Termination, 4 V, -20 to 70 degC, 8-pin SOIC (D), Green (RoHS & no Sb/Br); PartNumber: BQ2000SN-B5TR; Manufacturer: Texas Instruments; Lead Acid: N; Li-Ion: Y; SubFamily: Battery Charge Management; Vin(Min)(V): 4; DatasheetVersion: SLUS138D; PackageVersion: revM, Jun-2011; PackageReference: D8; PackageDescription: 8-Pin Plastic Small Outline Integrated Circuit, 4.9 x 3.9 mm, Pitch 1.27 mm Pitch; Supplier 1: Digi-Key; Supplier Part Number 1: 296-25915-2-ND; Supplier 2: Digi-Key; Supplier Part Number 2: 296-25915-1-ND; Supplier 3: Digi-Key; Supplier Part Number 3: 296-25915-6-ND; Supplier 4: Newark; Supplier Part Number 4: 74C7504; Supplier 5: Mouser; Supplier Part Number 5: 595-BQ2000SN-B5TR; Eco-Plan: Green (RoHS & no Sb/Br); Li-Polymer: Y; NiCd: Y; NiMH: Y; Over Voltage Protection: N; Mounting Technology: Surface Mount; Code_JEDEC: MS-012AA; ComponentLink1Description: Datasheet; ComponentLink1URL: http://www.ti.com/general/docs/lit/getliterature.tsp?genericPartNumber=BQ2000&fileType=pdf
footprint D8_N (SOIC, 8-Leads, Body 4.9x3.9mm, Pitch 1.27mm, IPC Medium Density)
footprint D8_L (SOIC, 8-Leads, Body 4.9x3.9mm, Pitch 1.27mm, IPC High Density)
footprint D8_M (SOIC, 8-Leads, Body 4.9x3.9mm, Pitch 1.27mm, IPC Low Density)
pins: 1 SNS (in) "Current-sense input. Enables the bq2000 to sense the battery current via the voltage developed on this pin by an external sense-resistor connected in series with the battery pack", 2 VSS (power) "System ground. Connect to the battery's negative terminal", 3 ~{LED} (hiz) "Charge-status output. Open-drain output that indicates the charging status by turning on, turning off, or flashing an external LED, driven through a resistor.", 4 BAT (in) "Battery-voltage input. Battery-voltage sense input. A simple resistive divider, across the battery terminals, generates this input.", 5 TS (in) "Temperature-sense input. Input for an external battery-temperature monitoring circuit. An external resistive divider network with a negative temperature-coefficient thermistor sets the lower and upper temperature thresholds.", 6 RC (in) "Timer-program input. Used to program the maximum fast charge-time, maximum top-off charge-time, hold-off period, trickle charge rate, and to disable or enable top-off charge. A capacitor from VCC and a resistor to ground (See Datasheet)", 7 VCC (power) "Supply-voltage input. Recommended bypassing is 10 uF + 0.1 uF to 0.22 uF of decoupling capacitance near the pin.", 8 MOD (out) "Modulation-control output. Push-pull output that controls the charging current to the battery. MOD switches high to enable charging current to flow and low to inhibit charging-current flow."

## BQ2000SN-B5TRG4
designator U?
Switch-Mode Multi-Chemistry Battery Charger with Peak Voltage Detection Termination, 4 V, -20 to 70 degC, 8-pin SOIC (D), Green (RoHS & no Sb/Br); PartNumber: BQ2000SN-B5TRG4; Manufacturer: Texas Instruments; Lead Acid: N; Li-Ion: Y; SubFamily: Battery Charge Management; Vin(Min)(V): 4; DatasheetVersion: SLUS138D; PackageVersion: revM, Jun-2011; PackageReference: D8; PackageDescription: 8-Pin Plastic Small Outline Integrated Circuit, 4.9 x 3.9 mm, Pitch 1.27 mm Pitch; Supplier 1: Digi-Key; Supplier Part Number 1: BQ2000SN-B5TRG4-ND; Supplier 2: Newark; Supplier Part Number 2: 06M7007; Supplier 3: Mouser; Supplier Part Number 3: 595-BQ2000SN-B5TRG4; Eco-Plan: Green (RoHS & no Sb/Br); Li-Polymer: Y; NiCd: Y; NiMH: Y; Over Voltage Protection: N; Mounting Technology: Surface Mount; Code_JEDEC: MS-012AA; ComponentLink1Description: Datasheet; ComponentLink1URL: http://www.ti.com/general/docs/lit/getliterature.tsp?genericPartNumber=BQ2000&fileType=pdf
footprint D8_N (SOIC, 8-Leads, Body 4.9x3.9mm, Pitch 1.27mm, IPC Medium Density)
footprint D8_L (SOIC, 8-Leads, Body 4.9x3.9mm, Pitch 1.27mm, IPC High Density)
footprint D8_M (SOIC, 8-Leads, Body 4.9x3.9mm, Pitch 1.27mm, IPC Low Density)
pins: 1 SNS (in) "Current-sense input. Enables the bq2000 to sense the battery current via the voltage developed on this pin by an external sense-resistor connected in series with the battery pack", 2 VSS (power) "System ground. Connect to the battery's negative terminal", 3 ~{LED} (hiz) "Charge-status output. Open-drain output that indicates the charging status by turning on, turning off, or flashing an external LED, driven through a resistor.", 4 BAT (in) "Battery-voltage input. Battery-voltage sense input. A simple resistive divider, across the battery terminals, generates this input.", 5 TS (in) "Temperature-sense input. Input for an external battery-temperature monitoring circuit. An external resistive divider network with a negative temperature-coefficient thermistor sets the lower and upper temperature thresholds.", 6 RC (in) "Timer-program input. Used to program the maximum fast charge-time, maximum top-off charge-time, hold-off period, trickle charge rate, and to disable or enable top-off charge. A capacitor from VCC and a resistor to ground (See Datasheet)", 7 VCC (power) "Supply-voltage input. Recommended bypassing is 10 uF + 0.1 uF to 0.22 uF of decoupling capacitance near the pin.", 8 MOD (out) "Modulation-control output. Push-pull output that controls the charging current to the battery. MOD switches high to enable charging current to flow and low to inhibit charging-current flow."